# Altium footprint library Tactile Switches.PcbLib: 2 footprints
Each footprint in its own frame and in the unit in brackets; x right, y up, seen from the top. Pads: shape width x height; smd on the part's side, far side on the other; paste and mask are expansions set on the pad; w line width, h text height; cw(c..) or ccw(c..) is an arc to the next point about the centre after c.
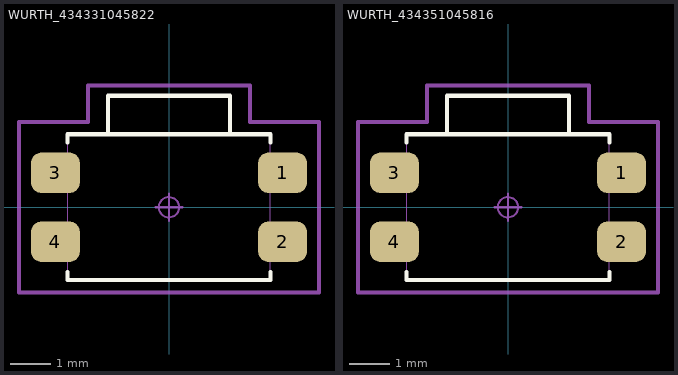
[diagram p0: the footprints below, top view; thin cyan lines are the x and y axes]

## WURTH_434331045822 [mm]
pads (4):
  rrect50% 1.2x1 smd mask+0.04: 1(2.8,0.85) 2(2.8,-0.85) 3(-2.8,0.85) 4(-2.8,-0.85)
Top Overlay:
  lines w0.1: -2.5,-1.6 -2.5,-1.8 2.5,-1.8 2.5,-1.6 ; -2.5,1.6 -2.5,1.8 2.5,1.8 2.5,1.6 ; -1.5,1.8 -1.5,2.75 1.5,2.75 1.5,1.8
Mechanical 13:
  lines w0.025: -2.5,-1.175 -3.2,-1.175 -3.2,-0.5 -2.5,-0.5 ; -2.5,0.525 -3.2,0.525 -3.2,1.2 -2.5,1.2 ; 2.5,-1.2 3.2,-1.2 3.2,-0.525 2.5,-0.525 ; 2.5,0.5 3.2,0.5 3.2,1.175 2.5,1.175 ; -2.5,-1.8 2.5,-1.8 2.5,1.8 1.5,1.8 1.5,2.75 -1.5,2.75 -1.5,1.8 -2.5,1.8 -2.5,-1.8
Mechanical 15:
  circle w0.05: c0,0 r0.25
  lines w0.05: -0.335,0 0.335,0 ; 0,-0.335 0,0.335
  lines w0.1: -3.7,-2.1 3.7,-2.1 3.7,2.1 2,2.1 2,3 -2,3 -2,2.1 -3.7,2.1 -3.7,-2.1
3D body "4343x10458xx.stp": height 1.65, standoff 0, extent -3.2,-1.75 3.2,2.75

## WURTH_434351045816 [mm]
pads (4):
  rrect50% 1.2x1 smd mask+0.04: 1(2.8,0.85) 2(2.8,-0.85) 3(-2.8,0.85) 4(-2.8,-0.85)
Top Overlay:
  lines w0.1: -2.5,-1.6 -2.5,-1.8 2.5,-1.8 2.5,-1.6 ; -2.5,1.6 -2.5,1.8 2.5,1.8 2.5,1.6 ; -1.5,1.8 -1.5,2.75 1.5,2.75 1.5,1.8
Mechanical 13:
  lines w0.025: -2.5,-1.175 -3.2,-1.175 -3.2,-0.5 -2.5,-0.5 ; -2.5,0.525 -3.2,0.525 -3.2,1.2 -2.5,1.2 ; 2.5,-1.2 3.2,-1.2 3.2,-0.525 2.5,-0.525 ; 2.5,0.5 3.2,0.5 3.2,1.175 2.5,1.175 ; -2.5,-1.8 -2.5,1.8 -1.5,1.8 -1.5,2.75 1.5,2.75 1.5,1.8 2.5,1.8 2.5,-1.8 -2.5,-1.8
Mechanical 15:
  circle w0.05: c0,0 r0.25
  lines w0.05: -0.335,0 0.335,0 ; 0,-0.335 0,0.335
  lines w0.1: -3.7,-2.1 -3.7,2.1 -2,2.1 -2,3 2,3 2,2.1 3.7,2.1 3.7,-2.1 -3.7,-2.1
3D body "434351045816_Download_STP_434351045816_rev1.stp": height 1.65, standoff 0, extent -3.2,-1.75 3.2,2.75